# Altium footprint library QFN65P500X500X80_HS-25N.PcbLib: 1 footprints
Each footprint in its own frame and in the unit in brackets; x right, y up, seen from the top. Pads: shape width x height; smd on the part's side, far side on the other; paste and mask are expansions set on the pad; w line width, h text height; cw(c..) or ccw(c..) is an arc to the next point about the centre after c.
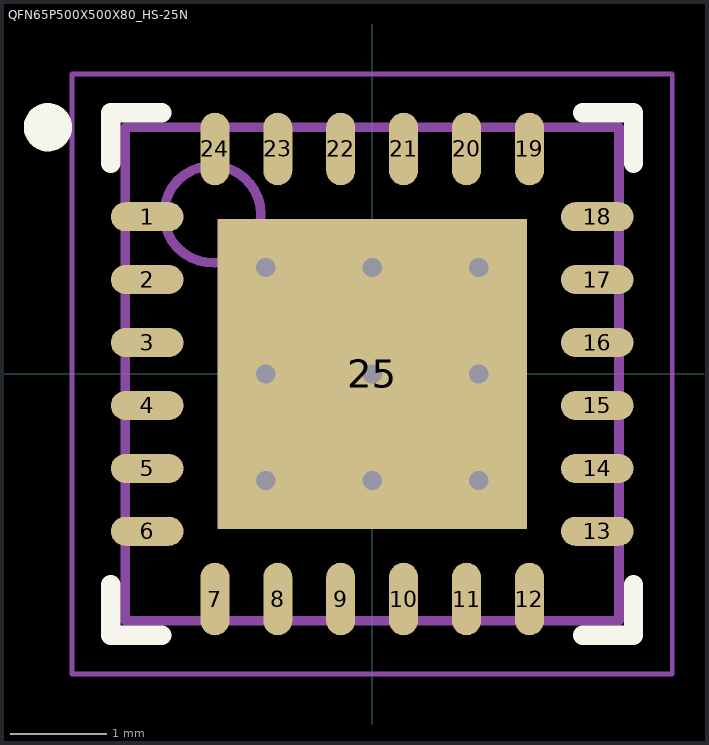
[diagram p0: the footprint, top view; thin cyan lines are the x and y axes]

## QFN65P500X500X80_HS-25N [mm] "QFN, 24-Leads, Body 5.00x5.00mm, Pitch 0.65mm, Thermal Pad 3.20x3.20mm, IPC Medium Density"
height 0.8
pads (25):
  oval 0.75x0.3 smd: 1(-2.325,1.625) 2(-2.325,0.975) 3(-2.325,0.325) 4(-2.325,-0.325) 5(-2.325,-0.975) 6(-2.325,-1.625) 13(2.325,-1.625) 14(2.325,-0.975) 15(2.325,-0.325) 16(2.325,0.325) 17(2.325,0.975) 18(2.325,1.625)
  oval 0.3x0.75 smd: 7(-1.625,-2.325) 8(-0.975,-2.325) 9(-0.325,-2.325) 10(0.325,-2.325) 11(0.975,-2.325) 12(1.625,-2.325) 19(1.625,2.325) 20(0.975,2.325) 21(0.325,2.325) 22(-0.325,2.325) 23(-0.975,2.325) 24(-1.625,2.325)
  rect 3.2x3.2 smd: 25(0,0)
via 1.1,-1.1 diameter 0.5 hole 0.2
via 0,-1.1 diameter 0.5 hole 0.2
via -1.1,-1.1 diameter 0.5 hole 0.2
via 1.1,0 diameter 0.5 hole 0.2
via 0,0 diameter 0.5 hole 0.2
via -1.1,0 diameter 0.5 hole 0.2
via 1.1,1.1 diameter 0.5 hole 0.2
via 0,1.1 diameter 0.5 hole 0.2
via -1.1,1.1 diameter 0.5 hole 0.2
Top Overlay:
  circle w0.25: c-3.35,2.55 r0.125
  lines w0.2: -2.7,-2.175 -2.7,-2.7 -2.175,-2.7 ; -2.7,2.175 -2.7,2.7 -2.175,2.7 ; 2.175,-2.7 2.7,-2.7 2.7,-2.175 ; 2.175,2.7 2.7,2.7 2.7,2.175
Top Assembly:
  circle w0.1: c-1.65,1.65 r0.5
  lines w0.1: -2.55,-2.55 2.55,-2.55 2.55,2.55 -2.55,2.55 -2.55,-2.55
Top Courtyard:
  lines w0.05: -3.1,-3.1 3.1,-3.1 3.1,3.1 -3.1,3.1 -3.1,-3.1
  lines w0.1: -0.5,0 0.5,0 ; 0,-0.5 0,0.5
3D body "QFN65P500X500X80_HS-25N.step": height 0.8, standoff 0, extent -2.6,-2.6 2.6,2.6